# EAGLE library part AMP-520251-4 (library Digilent)
RJ-45 Connector
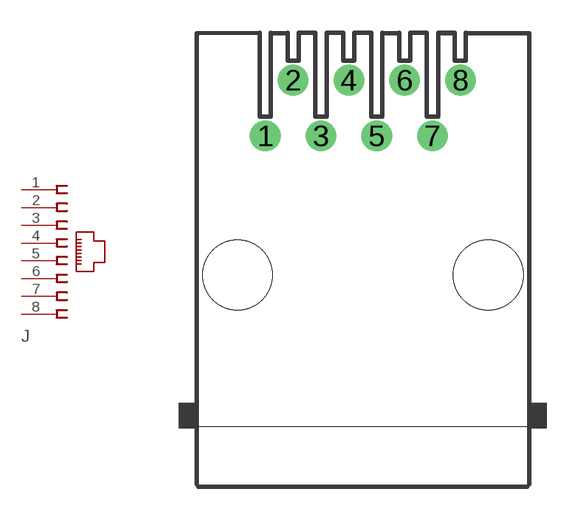
[diagram p54: symbol with the pads of AMP-520251; footprint AMP-520251]

Designator prefix J

## AMP-520251-4  [AMP-520251]
1  1  pas
2  2  pas
3  3  pas
4  4  pas
5  5  pas
6  6  pas
7  7  pas
8  8  pas

## Footprint AMP-520251 (pad centres in mm)
drill 0.889 round: 1 -4.445,6.35; 2 -3.175,8.89; 3 -1.905,6.35; 4 -0.635,8.89; 5 0.635,6.35; 6 1.905,8.89; 7 3.175,6.35; 8 4.445,8.89
hole 3.175 at -5.715,0
hole 3.175 at 5.715,0